# Altium footprint library vson.PcbLib: 1 footprints
Each footprint in its own frame and in the unit in brackets; x right, y up, seen from the top. Pads: shape width x height; smd on the part's side, far side on the other; paste and mask are expansions set on the pad; w line width, h text height; cw(c..) or ccw(c..) is an arc to the next point about the centre after c.
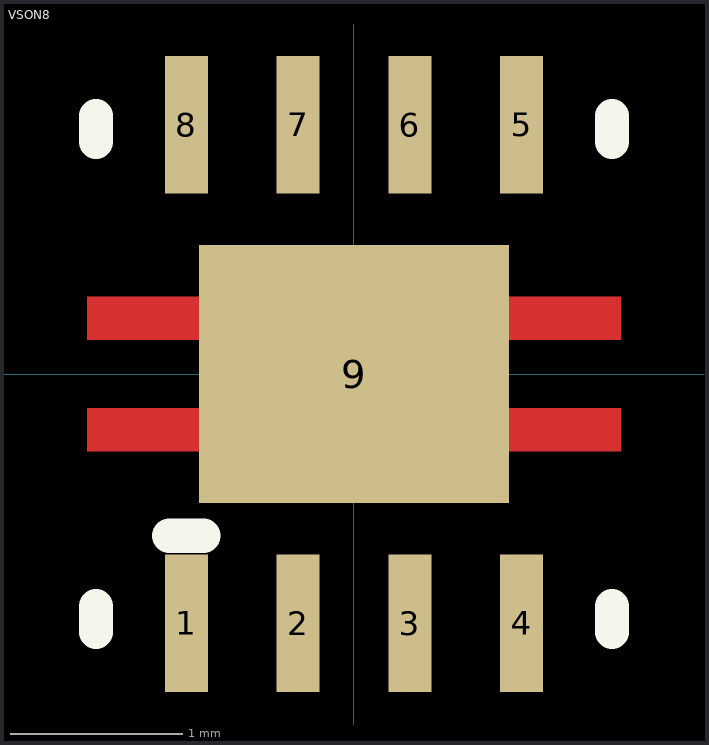
[diagram p0: the footprint, top view; thin cyan lines are the x and y axes]

## VSON8 [mm] "8 lead 3 x 3 mm"
height 1
pads (9):
  rect 0.25x0.8 smd mask+0.05: 1(-0.975,-1.45) 2(-0.325,-1.45) 3(0.325,-1.45) 4(0.975,-1.45) 5(0.975,1.45) 6(0.325,1.45) 7(-0.325,1.45) 8(-0.975,1.45)
  rect 1.8x1.5 smd: 9(0,0)
Top Layer:
  region: -0.9,0.45 -1.55,0.45 -1.55,0.2 -0.9,0.2
  region: -0.9,-0.45 -1.55,-0.45 -1.55,-0.2 -0.9,-0.2
  region: 0.9,-0.45 1.55,-0.45 1.55,-0.2 0.9,-0.2
  region: 0.9,0.45 1.55,0.45 1.55,0.2 0.9,0.2
Top Overlay:
  lines w0.2: -1.5,-1.5 -1.5,-1.35 ; -1.5,1.35 -1.5,1.5 ; -1.075,-0.94 -0.875,-0.94 ; 1.5,-1.5 1.5,-1.35 ; 1.5,1.35 1.5,1.5
3D body "User Library-DRB(S-PVSON-N8).STEP": height 1, standoff -0.05, extent -1.52,-1.52 1.52,1.52